# EAGLE library part SSW-149-02-S-Q (library con-samtec)
THROUGH-HOLE .025" SQ POST SOCKET Source: Samtec SSW.pdf
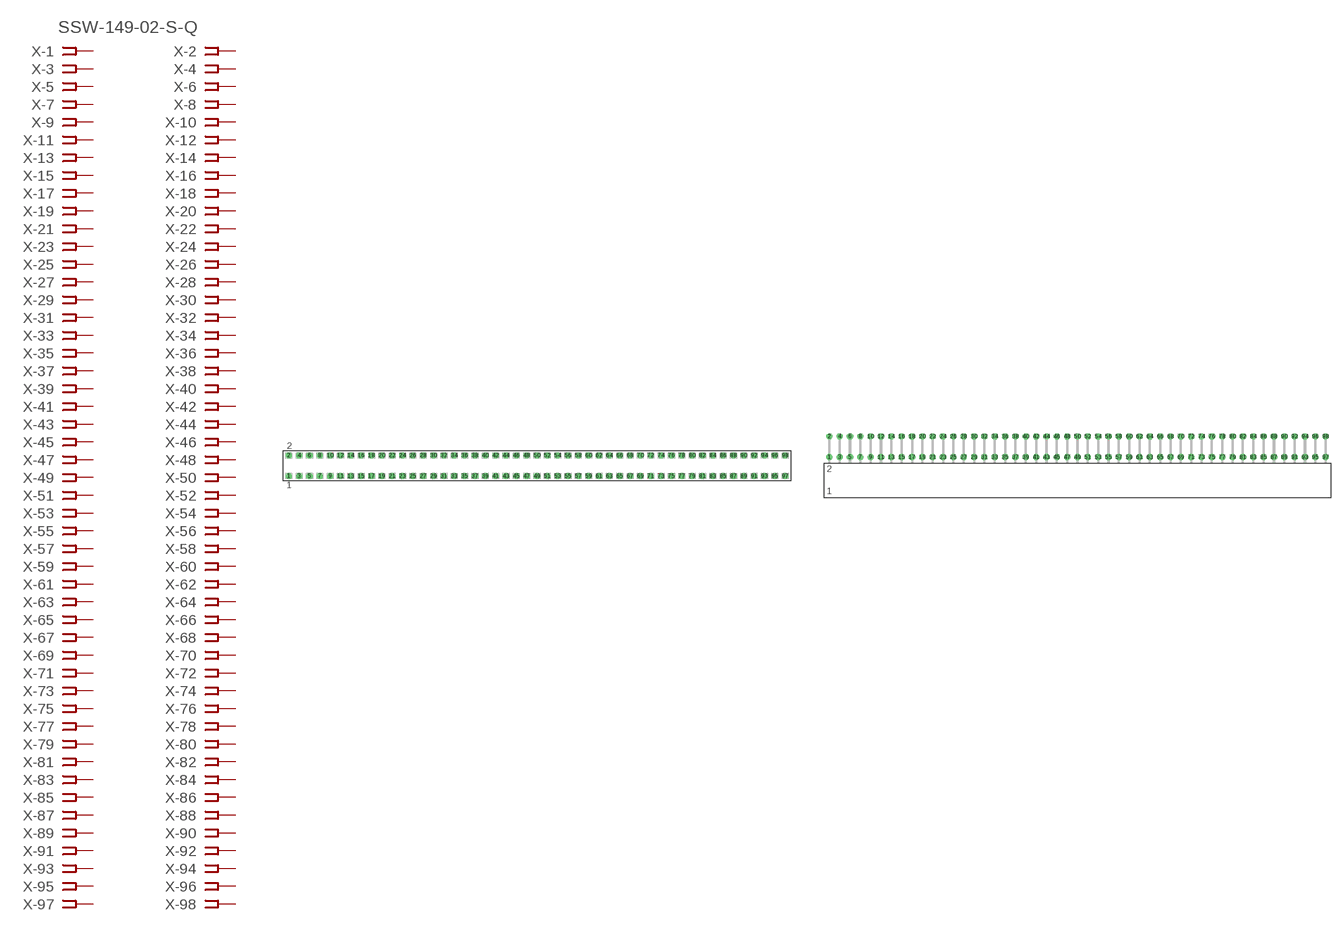
[diagram p99: symbol with the pads of SSW-149-02-S-Q; footprints SSW-149-02-S-Q, SSW-149-02-S-Q-RA]

Designator prefix X; gates -1=FPINV -2=FPIN -3=FPIN -4=FPIN -5=FPIN -6=FPIN -7=FPIN -8=FPIN -9=FPIN -10=FPIN -11=FPIN -12=FPIN -13=FPIN -14=FPIN -15=FPIN -16=FPIN -17=FPIN -18=FPIN -19=FPIN -20=FPIN -21=FPIN -22=FPIN -23=FPIN -24=FPIN -25=FPIN -26=FPIN -27=FPIN -28=FPIN -29=FPIN -30=FPIN -31=FPIN -32=FPIN -33=FPIN -34=FPIN -35=FPIN -36=FPIN -37=FPIN -38=FPIN -39=FPIN -40=FPIN -41=FPIN -42=FPIN -43=FPIN -44=FPIN -45=FPIN -46=FPIN -47=FPIN -48=FPIN -49=FPIN -50=FPIN -51=FPIN -52=FPIN -53=FPIN -54=FPIN -55=FPIN -56=FPIN -57=FPIN -58=FPIN -59=FPIN -60=FPIN -61=FPIN -62=FPIN -63=FPIN -64=FPIN -65=FPIN -66=FPIN -67=FPIN -68=FPIN -69=FPIN -70=FPIN -71=FPIN -72=FPIN -73=FPIN -74=FPIN -75=FPIN -76=FPIN -77=FPIN -78=FPIN -79=FPIN -80=FPIN -81=FPIN -82=FPIN -83=FPIN -84=FPIN -85=FPIN -86=FPIN -87=FPIN -88=FPIN -89=FPIN -90=FPIN -91=FPIN -92=FPIN -93=FPIN -94=FPIN -95=FPIN -96=FPIN -97=FPIN -98=FPIN

## SSW-149-02-S-Q  [SSW-149-02-S-Q]
1  -1:1  pas
2  -2:1  pas
3  -3:1  pas
4  -4:1  pas
5  -5:1  pas
6  -6:1  pas
7  -7:1  pas
8  -8:1  pas
9  -9:1  pas
10  -10:1  pas
11  -11:1  pas
12  -12:1  pas
13  -13:1  pas
14  -14:1  pas
15  -15:1  pas
16  -16:1  pas
17  -17:1  pas
18  -18:1  pas
19  -19:1  pas
20  -20:1  pas
21  -21:1  pas
22  -22:1  pas
23  -23:1  pas
24  -24:1  pas
25  -25:1  pas
26  -26:1  pas
27  -27:1  pas
28  -28:1  pas
29  -29:1  pas
30  -30:1  pas
31  -31:1  pas
32  -32:1  pas
33  -33:1  pas
34  -34:1  pas
35  -35:1  pas
36  -36:1  pas
37  -37:1  pas
38  -38:1  pas
39  -39:1  pas
40  -40:1  pas
41  -41:1  pas
42  -42:1  pas
43  -43:1  pas
44  -44:1  pas
45  -45:1  pas
46  -46:1  pas
47  -47:1  pas
48  -48:1  pas
49  -49:1  pas
50  -50:1  pas
51  -51:1  pas
52  -52:1  pas
53  -53:1  pas
54  -54:1  pas
55  -55:1  pas
56  -56:1  pas
57  -57:1  pas
58  -58:1  pas
59  -59:1  pas
60  -60:1  pas
61  -61:1  pas
62  -62:1  pas
63  -63:1  pas
64  -64:1  pas
65  -65:1  pas
66  -66:1  pas
67  -67:1  pas
68  -68:1  pas
69  -69:1  pas
70  -70:1  pas
71  -71:1  pas
72  -72:1  pas
73  -73:1  pas
74  -74:1  pas
75  -75:1  pas
76  -76:1  pas
77  -77:1  pas
78  -78:1  pas
79  -79:1  pas
80  -80:1  pas
81  -81:1  pas
82  -82:1  pas
83  -83:1  pas
84  -84:1  pas
85  -85:1  pas
86  -86:1  pas
87  -87:1  pas
88  -88:1  pas
89  -89:1  pas
90  -90:1  pas
91  -91:1  pas
92  -92:1  pas
93  -93:1  pas
94  -94:1  pas
95  -95:1  pas
96  -96:1  pas
97  -97:1  pas
98  -98:1  pas

## SSW-149-02-S-QRA  [SSW-149-02-S-Q-RA]
Pads as for SSW-149-02-S-Q

## Footprint SSW-149-02-S-Q (pad centres in mm)
THROUGH-HOLE .025" SQ POST SOCKET Source: Samtec SSW.pdf
drill 1 pad 1.5 octagon: 1 -60.96,-2.54; 2 -60.96,2.54; 3 -58.42,-2.54; 4 -58.42,2.54; 5 -55.88,-2.54; 6 -55.88,2.54; 7 -53.34,-2.54; 8 -53.34,2.54; 9 -50.8,-2.54; 10 -50.8,2.54; 11 -48.26,-2.54; 12 -48.26,2.54; 13 -45.72,-2.54; 14 -45.72,2.54; 15 -43.18,-2.54; 16 -43.18,2.54; 17 -40.64,-2.54; 18 -40.64,2.54; 19 -38.1,-2.54; 20 -38.1,2.54; 21 -35.56,-2.54; 22 -35.56,2.54; 23 -33.02,-2.54; 24 -33.02,2.54; 25 -30.48,-2.54; 26 -30.48,2.54; 27 -27.94,-2.54; 28 -27.94,2.54; 29 -25.4,-2.54; 30 -25.4,2.54; 31 -22.86,-2.54; 32 -22.86,2.54; 33 -20.32,-2.54; 34 -20.32,2.54; 35 -17.78,-2.54; 36 -17.78,2.54; 37 -15.24,-2.54; 38 -15.24,2.54; 39 -12.7,-2.54; 40 -12.7,2.54; 41 -10.16,-2.54; 42 -10.16,2.54; 43 -7.62,-2.54; 44 -7.62,2.54; 45 -5.08,-2.54; 46 -5.08,2.54; 47 -2.54,-2.54; 48 -2.54,2.54; 49 0,-2.54; 50 0,2.54; 51 2.54,-2.54; 52 2.54,2.54; 53 5.08,-2.54; 54 5.08,2.54; 55 7.62,-2.54; 56 7.62,2.54; 57 10.16,-2.54; 58 10.16,2.54; 59 12.7,-2.54; 60 12.7,2.54; 61 15.24,-2.54; 62 15.24,2.54; 63 17.78,-2.54; 64 17.78,2.54; 65 20.32,-2.54; 66 20.32,2.54; 67 22.86,-2.54; 68 22.86,2.54; 69 25.4,-2.54; 70 25.4,2.54; 71 27.94,-2.54; 72 27.94,2.54; 73 30.48,-2.54; 74 30.48,2.54; 75 33.02,-2.54; 76 33.02,2.54; 77 35.56,-2.54; 78 35.56,2.54; 79 38.1,-2.54; 80 38.1,2.54; 81 40.64,-2.54; 82 40.64,2.54; 83 43.18,-2.54; 84 43.18,2.54; 85 45.72,-2.54; 86 45.72,2.54; 87 48.26,-2.54; 88 48.26,2.54; 89 50.8,-2.54; 90 50.8,2.54; 91 53.34,-2.54; 92 53.34,2.54; 93 55.88,-2.54; 94 55.88,2.54; 95 58.42,-2.54; 96 58.42,2.54; 97 60.96,-2.54; 98 60.96,2.54

## Footprint SSW-149-02-S-Q-RA (pad centres in mm)
THROUGH-HOLE .025" SQ POST SOCKET Source: Samtec SSW.pdf
drill 1 pad 1.5 octagon: 1 -60.96,1.524; 2 -60.96,6.604; 3 -58.42,1.524; 4 -58.42,6.604; 5 -55.88,1.524; 6 -55.88,6.604; 7 -53.34,1.524; 8 -53.34,6.604; 9 -50.8,1.524; 10 -50.8,6.604; 11 -48.26,1.524; 12 -48.26,6.604; 13 -45.72,1.524; 14 -45.72,6.604; 15 -43.18,1.524; 16 -43.18,6.604; 17 -40.64,1.524; 18 -40.64,6.604; 19 -38.1,1.524; 20 -38.1,6.604; 21 -35.56,1.524; 22 -35.56,6.604; 23 -33.02,1.524; 24 -33.02,6.604; 25 -30.48,1.524; 26 -30.48,6.604; 27 -27.94,1.524; 28 -27.94,6.604; 29 -25.4,1.524; 30 -25.4,6.604; 31 -22.86,1.524; 32 -22.86,6.604; 33 -20.32,1.524; 34 -20.32,6.604; 35 -17.78,1.524; 36 -17.78,6.604; 37 -15.24,1.524; 38 -15.24,6.604; 39 -12.7,1.524; 40 -12.7,6.604; 41 -10.16,1.524; 42 -10.16,6.604; 43 -7.62,1.524; 44 -7.62,6.604; 45 -5.08,1.524; 46 -5.08,6.604; 47 -2.54,1.524; 48 -2.54,6.604; 49 0,1.524; 50 0,6.604; 51 2.54,1.524; 52 2.54,6.604; 53 5.08,1.524; 54 5.08,6.604; 55 7.62,1.524; 56 7.62,6.604; 57 10.16,1.524; 58 10.16,6.604; 59 12.7,1.524; 60 12.7,6.604; 61 15.24,1.524; 62 15.24,6.604; 63 17.78,1.524; 64 17.78,6.604; 65 20.32,1.524; 66 20.32,6.604; 67 22.86,1.524; 68 22.86,6.604; 69 25.4,1.524; 70 25.4,6.604; 71 27.94,1.524; 72 27.94,6.604; 73 30.48,1.524; 74 30.48,6.604; 75 33.02,1.524; 76 33.02,6.604; 77 35.56,1.524; 78 35.56,6.604; 79 38.1,1.524; 80 38.1,6.604; 81 40.64,1.524; 82 40.64,6.604; 83 43.18,1.524; 84 43.18,6.604; 85 45.72,1.524; 86 45.72,6.604; 87 48.26,1.524; 88 48.26,6.604; 89 50.8,1.524; 90 50.8,6.604; 91 53.34,1.524; 92 53.34,6.604; 93 55.88,1.524; 94 55.88,6.604; 95 58.42,1.524; 96 58.42,6.604; 97 60.96,1.524; 98 60.96,6.604